# Altium schematic symbol library Sinara.SchLib: 57 symbols
Pins are listed as number, name and electrical type; pins without a type are passive.

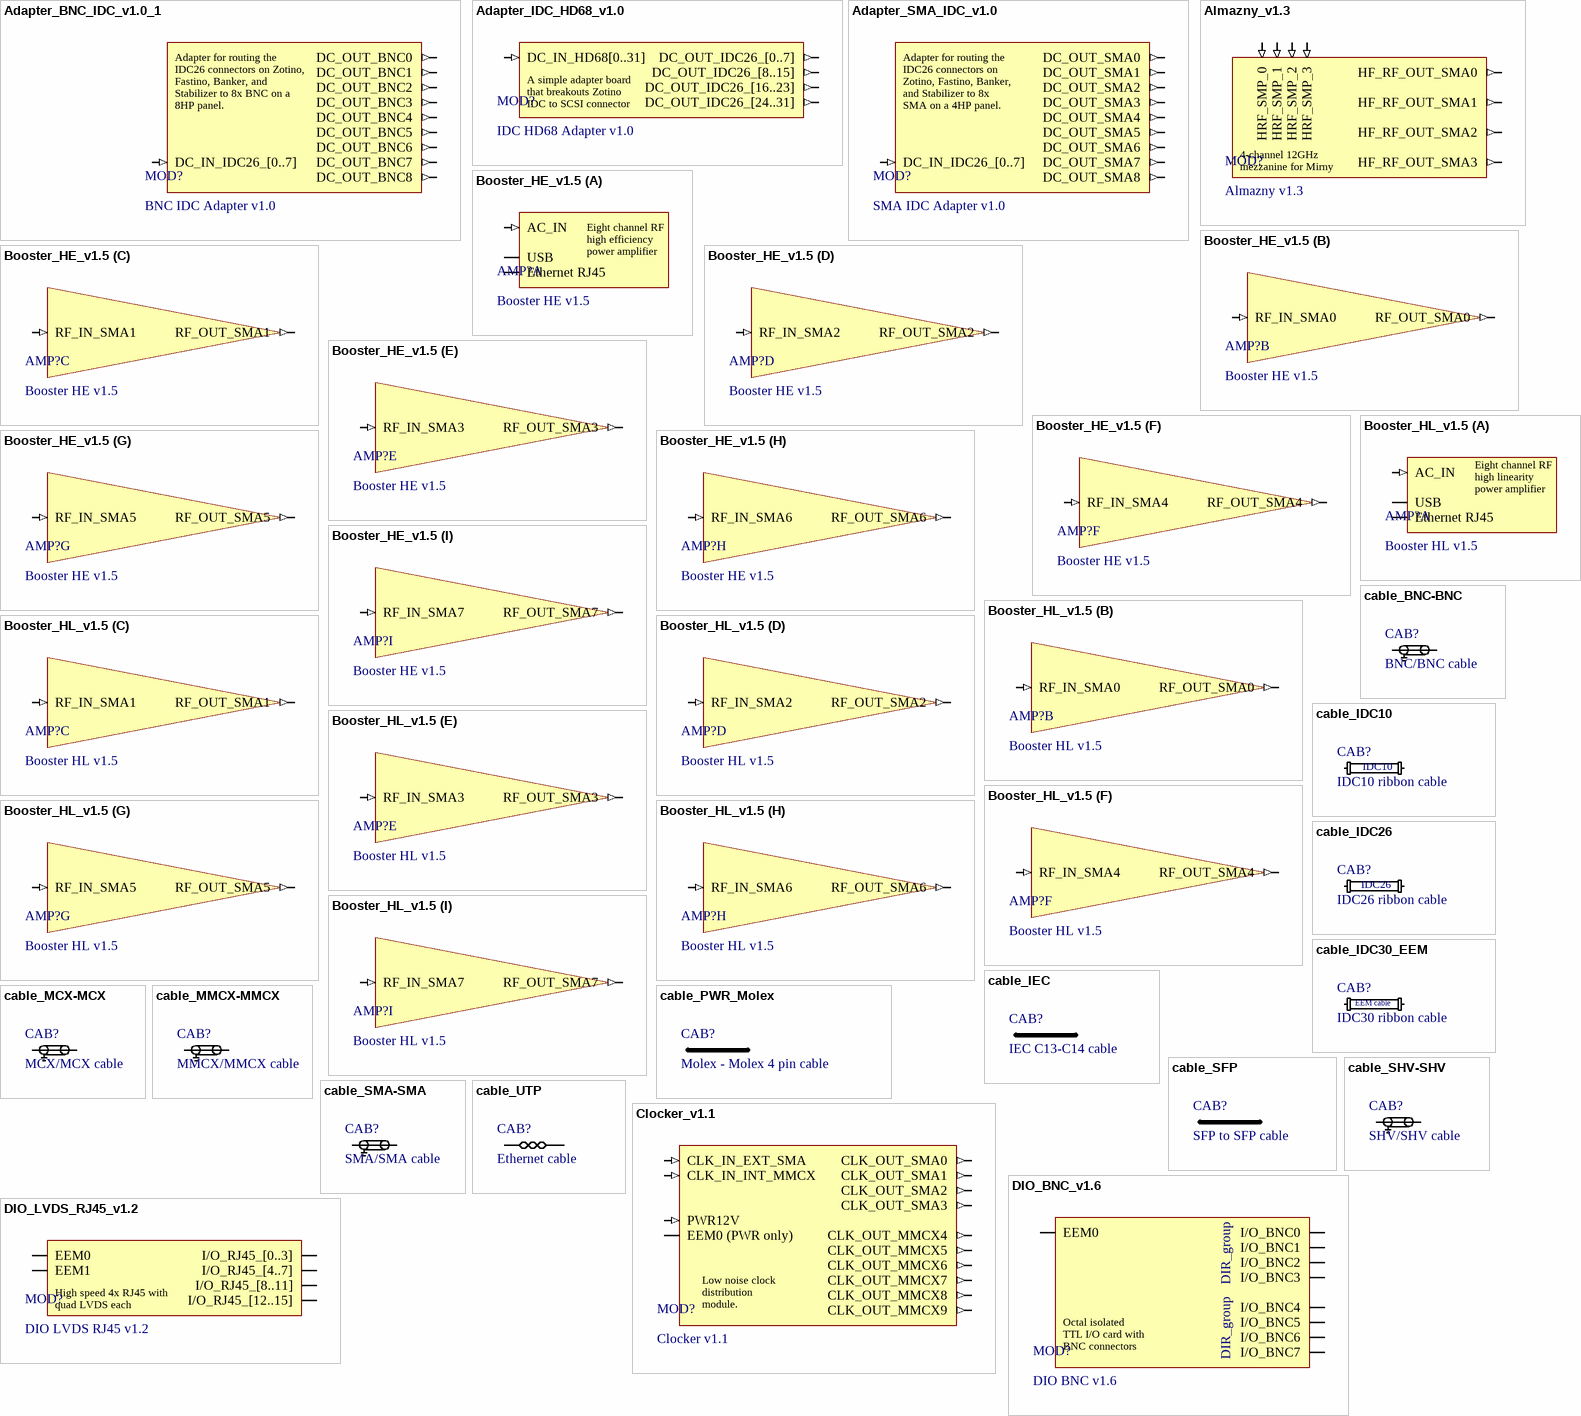
[diagram p0: symbols Adapter_BNC_IDC_v1.0_1 to DIO_LVDS_RJ45_v1.2]

## Adapter_BNC_IDC_v1.0_1
designator MOD?, comment BNC IDC Adapter v1.0
Adapter for routing the IDC26 connectors on Zotino, Fastino, Banker, and Stabilizer to 8x BNC on a 8HP panel.
pins: ?1 DC_IN_IDC26_[0..7] (in), ?2 DC_OUT_BNC0 (out), ?3 DC_OUT_BNC1 (out), ?4 DC_OUT_BNC2 (out), ?5 DC_OUT_BNC3 (out), ?6 DC_OUT_BNC4 (out), ?7 DC_OUT_BNC5 (out), ?8 DC_OUT_BNC6 (out), ?9 DC_OUT_BNC7 (out), ?10 DC_OUT_BNC8 (out)

## Adapter_IDC_HD68_v1.0
designator MOD?, comment IDC HD68 Adapter v1.0
A simple adapter board that breakouts Zotino IDC to SCSI connector
pins: ?1 DC_IN_HD68[0..31] (in), ?2 DC_OUT_IDC26_[0..7] (out), ?3 DC_OUT_IDC26_[8..15] (out), ?4 DC_OUT_IDC26_[16..23] (out), ?5 DC_OUT_IDC26_[24..31] (out)

## Adapter_SMA_IDC_v1.0
designator MOD?, comment SMA IDC Adapter v1.0
Adapter for routing the IDC26 connectors on Zotino, Fastino, Banker, and Stabilizer to 8x SMA on a 4HP panel.
pins: ?1 DC_IN_IDC26_[0..7] (in), ?2 DC_OUT_SMA0 (out), ?3 DC_OUT_SMA1 (out), ?4 DC_OUT_SMA2 (out), ?5 DC_OUT_SMA3 (out), ?6 DC_OUT_SMA4 (out), ?7 DC_OUT_SMA5 (out), ?8 DC_OUT_SMA6 (out), ?9 DC_OUT_SMA7 (out), ?10 DC_OUT_SMA8 (out)

## Almazny_v1.3
designator MOD?, comment Almazny v1.3
4-channel 12GHz mezzanine for Mirny
pins: ?1 HF_RF_OUT_SMA0 (out), ?2 HRF_SMP_0 (in), ?3 HRF_SMP_1 (in), ?4 HRF_SMP_2 (in), ?5 HRF_SMP_3 (in), ?6 HF_RF_OUT_SMA1 (out), ?7 HF_RF_OUT_SMA2 (out), ?8 HF_RF_OUT_SMA3 (out)

## Booster_HE_v1.5
designator AMP?, comment Booster HE v1.5
Eight channel RF high efficiency power amplifier
part A pins: ?1 AC_IN (in), ?2 USB (io), ?3 Ethernet RJ45 (io)
part B pins: ? RF_IN_SMA0 (in), ? RF_OUT_SMA0 (out)
part C pins: ? RF_IN_SMA1 (in), ? RF_OUT_SMA1 (out)
part D pins: ? RF_IN_SMA2 (in), ? RF_OUT_SMA2 (out)
part E pins: ? RF_IN_SMA3 (in), ? RF_OUT_SMA3 (out)
part F pins: ? RF_IN_SMA4 (in), ? RF_OUT_SMA4 (out)
part G pins: ? RF_IN_SMA5 (in), ? RF_OUT_SMA5 (out)
part H pins: ? RF_IN_SMA6 (in), ? RF_OUT_SMA6 (out)
part I pins: ? RF_IN_SMA7 (in), ? RF_OUT_SMA7 (out)

## Booster_HL_v1.5
designator AMP?, comment Booster HL v1.5
Eight channel RF high linearity power amplifier
part A pins: ?1 AC_IN (in), ?2 USB (io), ?3 Ethernet RJ45 (io)
part B pins: ? RF_IN_SMA0 (in), ? RF_OUT_SMA0 (out)
part C pins: ? RF_IN_SMA1 (in), ? RF_OUT_SMA1 (out)
part D pins: ? RF_IN_SMA2 (in), ? RF_OUT_SMA2 (out)
part E pins: ? RF_IN_SMA3 (in), ? RF_OUT_SMA3 (out)
part F pins: ? RF_IN_SMA4 (in), ? RF_OUT_SMA4 (out)
part G pins: ? RF_IN_SMA5 (in), ? RF_OUT_SMA5 (out)
part H pins: ? RF_IN_SMA6 (in), ? RF_OUT_SMA6 (out)
part I pins: ? RF_IN_SMA7 (in), ? RF_OUT_SMA7 (out)

## cable_BNC-BNC
designator CAB?, comment BNC/BNC cable
BNC to BNC cable
pins: ?1 c, ?2 c

## cable_IDC10
designator CAB?, comment IDC10 ribbon cable
IDC10-IDC10 ribbon cable
pins: ?1 c, ?2 c
text: IDC10

## cable_IDC26
designator CAB?, comment IDC26 ribbon cable
IDC26-IDC26 ribbon cable
pins: ?1 c, ?2 c
text: IDC26

## cable_IDC30_EEM
designator CAB?, comment IDC30 ribbon cable
IDC30-IDC30 ribbon cable
pins: ?1 c, ?2 c
text: EEM cable

## cable_IEC
designator CAB?, comment IEC C13-C14 cable
pins: ?1 c, ?2 c

## cable_MCX-MCX
designator CAB?, comment MCX/MCX cable
MCX to MCX cable
pins: ?1 c, ?2 c

## cable_MMCX-MMCX
designator CAB?, comment MMCX/MMCX cable
MMCX to MMCX cable
pins: ?1 c, ?2 c

## cable_PWR_Molex
designator CAB?, comment Molex - Molex 4 pin cable
Molex - Molex mini-fit 4 pin cable
pins: ?1 c, ?2 c

## cable_SFP
designator CAB?, comment SFP to SFP cable
SFP to SFP 10G copper cable
pins: ?1 c, ?2 c

## cable_SHV-SHV
designator CAB?, comment SHV/SHV cable
SHV to SHV cable
pins: ?1 c, ?2 c

## cable_SMA-SMA
designator CAB?, comment SMA/SMA cable
SMA to SMA cable
pins: ?1 c, ?2 c

## cable_UTP
designator CAB?, comment Ethernet cable
Cat5e UTP Ethernet cable
pins: ?1 c, ?2 c

## Clocker_v1.1
designator MOD?, comment Clocker v1.1
Low noise clock distribution module.
pins: ?1 CLK_OUT_SMA0 (out), ?2 CLK_OUT_SMA1 (out), ?3 CLK_OUT_SMA2 (out), ?4 CLK_OUT_SMA3 (out), ?5 PWR12V (in), ?6 CLK_IN_EXT_SMA (in), ?7 CLK_IN_INT_MMCX (in), ?8 EEM0 (PWR only) (io), ?9 CLK_OUT_MMCX4 (out), ?10 CLK_OUT_MMCX5 (out), ?11 CLK_OUT_MMCX6 (out), ?12 CLK_OUT_MMCX7 (out), ?13 CLK_OUT_MMCX8 (out), ?14 CLK_OUT_MMCX9 (out)

## DIO_BNC_v1.6
designator MOD?, comment DIO BNC v1.6
Octal isolated TTL I/O card with BNC connectors
pins: ?1 I/O_BNC0 (io), ?2 I/O_BNC1 (io), ?3 I/O_BNC2 (io), ?4 I/O_BNC3 (io), ?5 I/O_BNC4 (io), ?6 I/O_BNC5 (io), ?7 I/O_BNC6 (io), ?8 I/O_BNC7 (io), EEM0 (io)
text: DIR_group

## DIO_LVDS_RJ45_v1.2
designator MOD?, comment DIO LVDS RJ45 v1.2
High speed 4x RJ45 with quad LVDS each
pins: ?1 I/O_RJ45_[0..3] (io), ?2 I/O_RJ45_[4..7] (io), ?3 I/O_RJ45_[8..11] (io), ?4 I/O_RJ45_[12..15] (io), EEM0 (io), EEM1 (io)

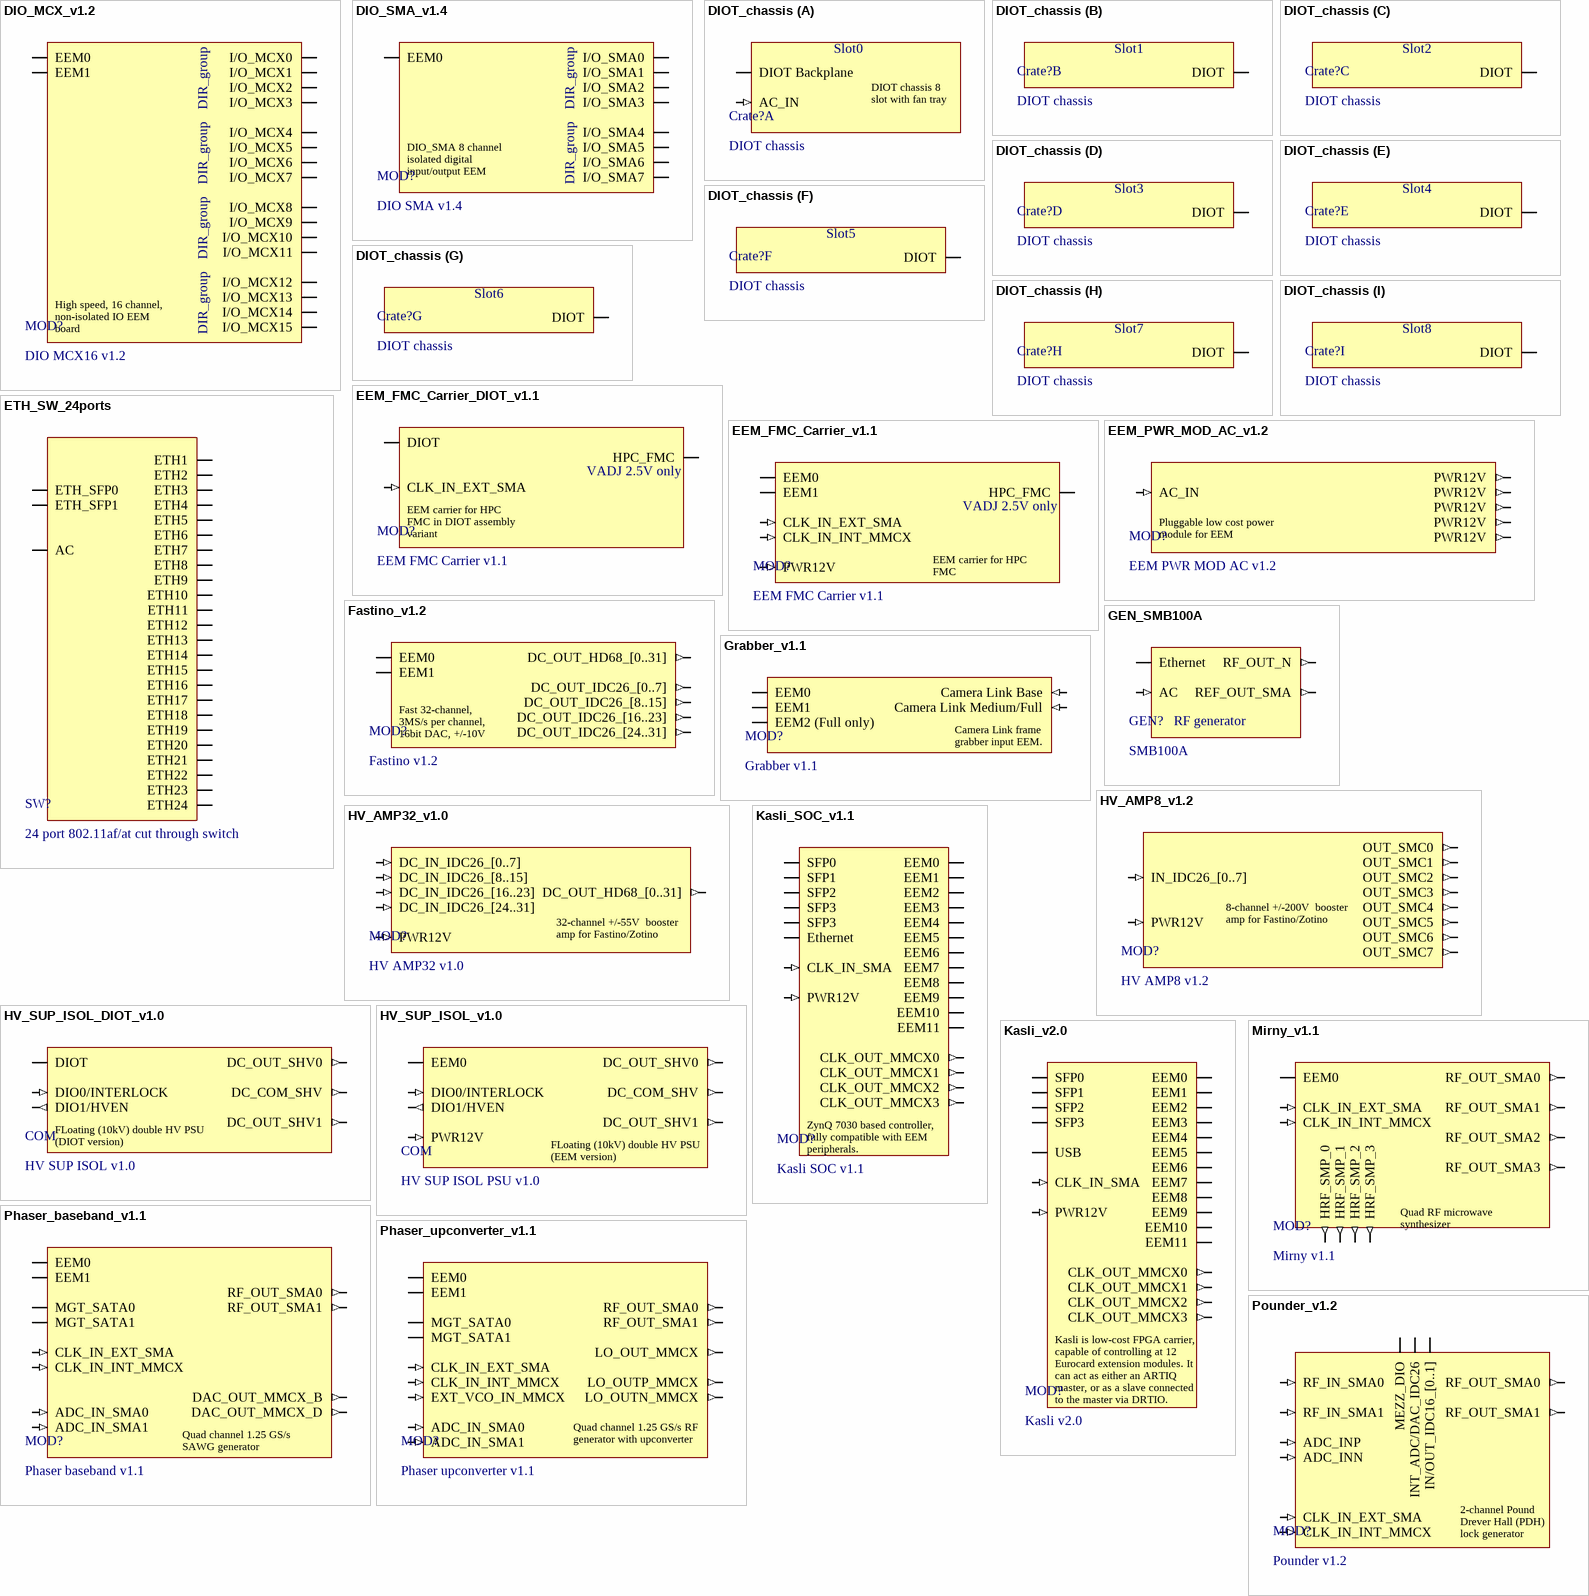
[diagram p1: symbols DIO_MCX_v1.2 to Pounder_v1.2]

## DIO_MCX_v1.2
designator MOD?, comment DIO MCX16 v1.2
High speed, 16 channel, non-isolated IO EEM board
pins: ?1 I/O_MCX0 (io), ?2 I/O_MCX1 (io), ?3 I/O_MCX2 (io), ?4 I/O_MCX3 (io), ?5 I/O_MCX4 (io), ?6 I/O_MCX5 (io), ?7 I/O_MCX6 (io), ?8 I/O_MCX7 (io), ?9 I/O_MCX8 (io), ?10 I/O_MCX9 (io), ?11 I/O_MCX10 (io), ?12 I/O_MCX11 (io), ?13 I/O_MCX12 (io), ?14 I/O_MCX13 (io), ?15 I/O_MCX14 (io), ?16 I/O_MCX15 (io), EEM0 (io), EEM1 (io)
text: DIR_group

## DIO_SMA_v1.4
designator MOD?, comment DIO SMA v1.4
DIO_SMA 8 channel isolated digital input/output EEM
pins: ?1 I/O_SMA0 (io), ?2 I/O_SMA1 (io), ?3 I/O_SMA2 (io), ?4 I/O_SMA3 (io), ?5 I/O_SMA4 (io), ?6 I/O_SMA5 (io), ?7 I/O_SMA6 (io), ?8 I/O_SMA7 (io), EEM0 (io)
text: DIR_group

## DIOT_chassis
designator Crate?, comment DIOT chassis
DIOT chassis with supply and fan tray
part A pins: ?1 DIOT Backplane (io), ?2 AC_IN (in)
part B pins: ? DIOT (io)
part C pins: ? DIOT (io)
part D pins: ? DIOT (io)
part E pins: ? DIOT (io)
part F pins: ? DIOT (io)
part G pins: ? DIOT (io)
part H pins: ? DIOT (io)
part I pins: ? DIOT (io)
part A text: Slot0; DIOT chassis 8 slot with fan tray
part B text: Slot1
part C text: Slot2
part D text: Slot3
part E text: Slot4
part F text: Slot5
part G text: Slot6
part H text: Slot7
part I text: Slot8

## EEM_FMC_Carrier_DIOT_v1.1
designator MOD?, comment EEM FMC Carrier v1.1
EEM carrier for HPC FMC in DIOT assembly variant
pins: ?1 DIOT (io), ?2 CLK_IN_EXT_SMA (in), ?3 HPC_FMC (io)
text: VADJ 2.5V only

## EEM_FMC_Carrier_v1.1
designator MOD?, comment EEM FMC Carrier v1.1
EEM carrier for HPC FMC
pins: ?1 CLK_IN_EXT_SMA (in), ?2 CLK_IN_INT_MMCX (in), ?3 HPC_FMC (io), ?4 PWR12V (in), EEM0 (io), EEM1 (io)
text: VADJ 2.5V only

## EEM_PWR_MOD_AC_v1.2
designator MOD?, comment EEM PWR MOD AC v1.2
Pluggable low cost power module for EEM
pins: ?1 AC_IN (in), ?2 PWR12V (out), ?3 PWR12V (out), ?4 PWR12V (out), ?5 PWR12V (out), ?6 PWR12V (out)

## ETH_SW_24ports
designator SW?, comment 24 port 802.11af/at cut through switch
24 port 802.11af/at cut through switch, rack mounted, min 300W PoE power
pins: ?1 ETH1 (io), ?2 ETH2 (io), ?3 ETH3 (io), ?4 ETH4 (io), ?5 ETH5 (io), ?6 ETH6 (io), ?7 ETH7 (io), ?8 ETH8 (io), ?9 ETH9 (io), ?10 ETH10 (io), ?11 ETH11 (io), ?12 ETH12 (io), ?13 ETH13 (io), ?14 ETH14 (io), ?15 ETH15 (io), ?16 ETH16 (io), ?17 ETH17 (io), ?18 ETH18 (io), ?19 ETH19 (io), ?20 ETH20 (io), ?21 ETH21 (io), ?22 ETH22 (io), ?23 ETH23 (io), ?24 ETH_SFP0 (io), ?25 ETH_SFP1 (io), ?26 ETH24 (io), ?27 AC (io)

## Fastino_v1.2
designator MOD?, comment Fastino v1.2
Fast 32-channel, 3MS/s per channel, 16bit DAC, +/-10V
pins: ?1 DC_OUT_HD68_[0..31] (out), ?2 DC_OUT_IDC26_[0..7] (out), ?3 DC_OUT_IDC26_[8..15] (out), ?4 DC_OUT_IDC26_[16..23] (out), ?5 DC_OUT_IDC26_[24..31] (out), EEM0 (io), EEM1 (io)

## GEN_SMB100A
designator GEN?, comment SMB100A
3GHz RF generator
pins: ?1 RF_OUT_N (out), ?2 Ethernet (io), ?3 AC (in), ?4 REF_OUT_SMA (out)
text: RF generator

## Grabber_v1.1
designator MOD?, comment Grabber v1.1
Camera Link frame grabber input EEM.
pins: ?1 Camera Link Base (in), ?2 Camera Link Medium/Full (in), EEM0 (io), EEM1 (io), EEM2 EEM2 (Full only) (io)

## HV_AMP8_v1.2
designator MOD?, comment HV AMP8 v1.2
8-channel +/-200V  booster amp for Fastino/Zotino
pins: ?1 OUT_SMC0 (out), ?2 IN_IDC26_[0..7] (in), ?3 PWR12V (in), ?4 OUT_SMC1 (out), ?5 OUT_SMC2 (out), ?6 OUT_SMC3 (out), ?7 OUT_SMC4 (out), ?8 OUT_SMC5 (out), ?9 OUT_SMC6 (out), ?10 OUT_SMC7 (out)

## HV_AMP32_v1.0
designator MOD?, comment HV AMP32 v1.0
32-channel +/-55V  booster amp for Fastino/Zotino
pins: ?1 DC_OUT_HD68_[0..31] (out), ?2 DC_IN_IDC26_[0..7] (in), ?3 DC_IN_IDC26_[8..15] (in), ?4 DC_IN_IDC26_[16..23] (in), ?5 DC_IN_IDC26_[24..31] (in), ?6 PWR12V (in)

## HV_SUP_ISOL_DIOT_v1.0
designator COM, comment HV SUP ISOL v1.0
FLoating (10kV) double HV PSU (DIOT version)
pins: ?1 DIOT (io), ?2 DC_OUT_SHV0 (out), ?3 DC_OUT_SHV1 (out), ?4 DC_COM_SHV (out), ?5 DIO0/INTERLOCK (in), ?6 DIO1/HVEN (out)

## HV_SUP_ISOL_v1.0
designator COM, comment HV SUP ISOL PSU v1.0
FLoating (10kV) double HV PSU (EEM version)
pins: ?1 DC_OUT_SHV0 (out), ?2 DC_OUT_SHV1 (out), ?3 DC_COM_SHV (out), ?4 PWR12V (in), ?5 DIO0/INTERLOCK (in), ?6 DIO1/HVEN (out), EEM0 (io)

## Kasli_SOC_v1.1
designator MOD?, comment Kasli SOC v1.1
ZYnQ 7030 based controller, fully compatible with EEM peripherals.
pins: ?1 SFP0 (io), ?2 SFP1 (io), ?3 SFP2 (io), ?4 SFP3 (io), ?5 Ethernet (io), ?6 CLK_IN_SMA (in), ?7 CLK_OUT_MMCX0 (out), ?8 CLK_OUT_MMCX1 (out), ?9 CLK_OUT_MMCX2 (out), ?10 CLK_OUT_MMCX3 (out), ?11 PWR12V (in), ?12 SFP3 (io), EEM0 (io), EEM1 (io), EEM2 (io), EEM3 (io), EEM4 (io), EEM5 (io), EEM6 (io), EEM7 (io), EEM8 (io), EEM9 (io), EEM10 (io), EEM11 (io)
text: ZynQ 7030 based controller, fully compatible with EEM peripherals.

## Kasli_v2.0
designator MOD?, comment Kasli v2.0
Kasli is low-cost FPGA carrier, capable of controlling at 12 Eurocard extension modules. It can act as either an ARTIQ master, or as a slave connected to the master via DRTIO.
pins: ?1 SFP0 (io), ?2 SFP1 (io), ?3 SFP2 (io), ?4 SFP3 (io), ?5 USB (io), ?6 CLK_IN_SMA (in), ?7 CLK_OUT_MMCX0 (out), ?8 CLK_OUT_MMCX1 (out), ?9 CLK_OUT_MMCX2 (out), ?10 CLK_OUT_MMCX3 (out), ?11 PWR12V (in), EEM0 (io), EEM1 (io), EEM2 (io), EEM3 (io), EEM4 (io), EEM5 (io), EEM6 (io), EEM7 (io), EEM8 (io), EEM9 (io), EEM10 (io), EEM11 (io)

## Mirny_v1.1
designator MOD?, comment Mirny v1.1
Quad RF microwave synthesizer
pins: ?1 CLK_IN_EXT_SMA (in), ?2 CLK_IN_INT_MMCX (in), ?3 RF_OUT_SMA0 (out), ?4 RF_OUT_SMA1 (out), ?5 RF_OUT_SMA2 (out), ?6 RF_OUT_SMA3 (out), ?7 HRF_SMP_0 (out), ?8 HRF_SMP_1 (out), ?9 HRF_SMP_2 (out), ?10 HRF_SMP_3 (out), EEM0 (io)

## Phaser_baseband_v1.1
designator MOD?, comment Phaser baseband v1.1
Quad channel 1.25 GS/s SAWG generator
pins: ?1 CLK_IN_EXT_SMA (in), ?2 CLK_IN_INT_MMCX (in), ?3 RF_OUT_SMA0 (out), ?4 RF_OUT_SMA1 (out), ?5 MGT_SATA0 (io), ?6 MGT_SATA1 (io), ?7 DAC_OUT_MMCX_B (out), ?8 DAC_OUT_MMCX_D (out), EEM0 (io), EEM1 (io), EEM2 ADC_IN_SMA0 (in), EEM3 ADC_IN_SMA1 (in)

## Phaser_upconverter_v1.1
designator MOD?, comment Phaser upconverter v1.1
Quad channel 1.25 GS/s RF generator with upconverter
pins: ?1 CLK_IN_EXT_SMA (in), ?2 CLK_IN_INT_MMCX (in), ?3 RF_OUT_SMA0 (out), ?4 RF_OUT_SMA1 (out), ?5 EXT_VCO_IN_MMCX (in), ?6 LO_OUT_MMCX (out), ?7 LO_OUTP_MMCX (out), ?8 LO_OUTN_MMCX (out), ?9 MGT_SATA0 (io), ?10 MGT_SATA1 (io), EEM0 (io), EEM1 (io), EEM2 ADC_IN_SMA0 (in), EEM3 ADC_IN_SMA1 (in)

## Pounder_v1.2
designator MOD?, comment Pounder v1.2
2-channel Pound Drever Hall (PDH) lock generator
pins: ?1 RF_IN_SMA0 (in), ?2 ADC_INP (in), ?3 RF_OUT_SMA0 (out), ?4 IN/OUT_IDC16_[0..1] (io), ?5 INT_ADC/DAC_IDC26 (io), ?6 MEZZ_DIO (io), ?7 RF_OUT_SMA1 (out), ?8 RF_IN_SMA1 (in), ?9 ADC_INN (in), ?10 CLK_IN_EXT_SMA (in), ?11 CLK_IN_INT_MMCX (in)

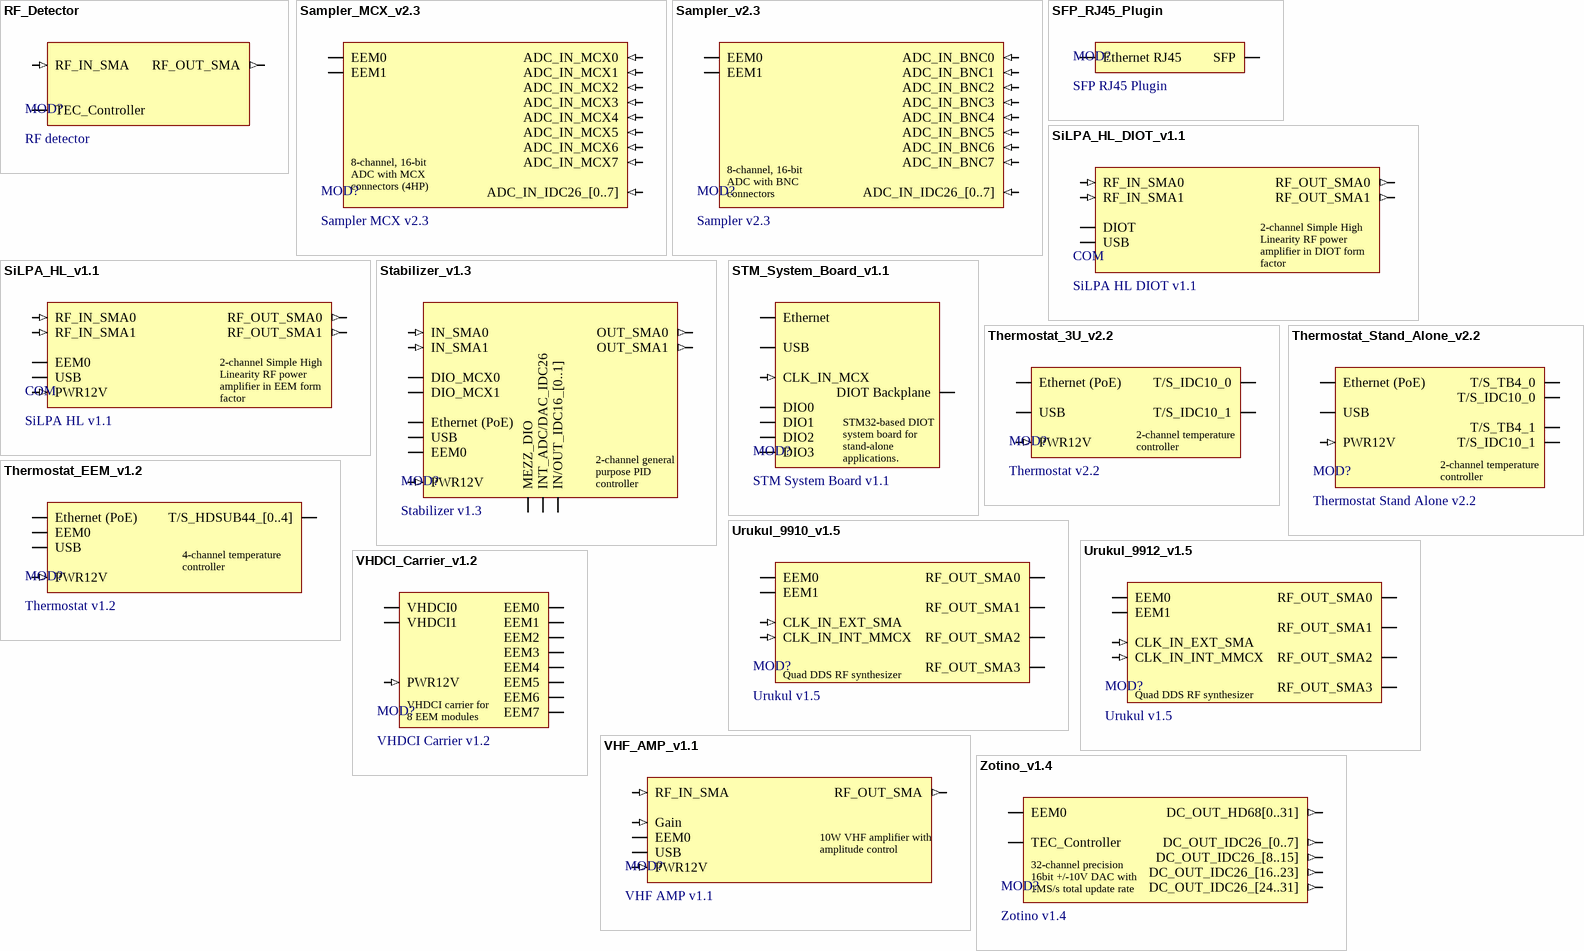
[diagram p2: symbols RF_Detector to Zotino_v1.4]

## RF_Detector
designator MOD?, comment RF detector
RF detector with temperature control
pins: ?1 TEC_Controller (io), ?2 RF_IN_SMA (in), ?3 RF_OUT_SMA (out)

## Sampler_MCX_v2.3
designator MOD?, comment Sampler MCX v2.3
8-channel, 16-bit ADC with MCX connectors (4HP)
pins: EEM0 (io), EEM1 (io), EEM2 ADC_IN_MCX0 (in), EEM3 ADC_IN_MCX1 (in), EEM4 ADC_IN_MCX2 (in), EEM5 ADC_IN_MCX3 (in), EEM6 ADC_IN_MCX4 (in), EEM7 ADC_IN_MCX5 (in), EEM8 ADC_IN_MCX6 (in), EEM9 ADC_IN_MCX7 (in), EEM9 ADC_IN_IDC26_[0..7] (in)

## Sampler_v2.3
designator MOD?, comment Sampler v2.3
8-channel, 16-bit ADC with BNC connectors
pins: EEM0 (io), EEM1 (io), EEM2 ADC_IN_BNC0 (in), EEM3 ADC_IN_BNC1 (in), EEM4 ADC_IN_BNC2 (in), EEM5 ADC_IN_BNC3 (in), EEM6 ADC_IN_BNC4 (in), EEM7 ADC_IN_BNC5 (in), EEM8 ADC_IN_BNC6 (in), EEM9 ADC_IN_BNC7 (in), EEM9 ADC_IN_IDC26_[0..7] (in)

## SFP_RJ45_Plugin
designator MOD?, comment SFP RJ45 Plugin
SFP RJ45 1000Base-X to 1000Base-T transceiver
pins: ?1 Ethernet RJ45 (io), ?2 SFP (io)

## SiLPA_HL_DIOT_v1.1
designator COM, comment SiLPA HL DIOT v1.1
2-channel Simple High Linearity RF power amplifier in DIOT form factor; Parameter 1: 2-channel High Linearity RF power amplifier in EEM form factor
pins: ?1 DIOT (io), ?2 RF_IN_SMA0 (in), ?3 RF_OUT_SMA0 (out), ?4 RF_OUT_SMA1 (out), ?5 RF_IN_SMA1 (in), ?6 USB (io)

## SiLPA_HL_v1.1
designator COM, comment SiLPA HL v1.1
2-channel Simple High Linearity RF power amplifier in EEM form factor; Parameter 1: 2-channel High Efficiency RF power amplifier in EEM form factor
pins: ?1 PWR12V (in), ?2 RF_IN_SMA0 (in), ?3 RF_OUT_SMA0 (out), ?4 RF_OUT_SMA1 (out), ?5 RF_IN_SMA1 (in), ?6 USB (io), EEM0 (io)

## Stabilizer_v1.3
designator MOD?, comment Stabilizer v1.3
2-channel general purpose PID controller
pins: ?1 Ethernet (PoE) (io), ?2 PWR12V (in), ?3 USB (io), ?4 IN_SMA0 (in), ?5 IN_SMA1 (in), ?6 DIO_MCX0 (io), ?7 DIO_MCX1 (io), ?8 EEM0 (io), ?9 OUT_SMA0 (out), ?10 OUT_SMA1 (out), ?11 IN/OUT_IDC16_[0..1] (io), ?12 INT_ADC/DAC_IDC26 (io), ?13 MEZZ_DIO (io)

## STM_System_Board_v1.1
designator MOD?, comment STM System Board v1.1
STM32-based DIOT system board for stand-alone applications.
pins: ?1 DIOT Backplane (io), ?2 Ethernet (io), ?3 USB (io), ?4 CLK_IN_MCX (in), ?5 DIO0 (io), ?6 DIO1 (io), ?7 DIO2 (io), ?8 DIO3 (io)

## Thermostat_3U_v2.2
designator MOD?, comment Thermostat v2.2
2-channel temperature controller
pins: ?1 Ethernet (PoE) (io), ?2 PWR12V (in), ?3 USB (io), ?4 T/S_IDC10_0 (io), ?5 T/S_IDC10_1 (io)

## Thermostat_EEM_v1.2
designator MOD?, comment Thermostat v1.2
4-channel temperature controller.
pins: ?1 Ethernet (PoE) (io), ?2 PWR12V (in), ?3 USB (io), ?4 T/S_HDSUB44_[0..4] (io), ?5 EEM0 (io)
text: 4-channel temperature controller

## Thermostat_Stand_Alone_v2.2
designator MOD?, comment Thermostat Stand Alone v2.2
2-channel temperature controller
pins: ?1 Ethernet (PoE) (io), ?2 PWR12V (in), ?3 T/S_TB4_0 (io), ?4 USB (io), ?5 T/S_IDC10_0 (io), ?6 T/S_IDC10_1 (io), ?7 T/S_TB4_1 (io)

## Urukul_9910_v1.5
designator MOD?, comment Urukul v1.5
Quad DDS RF synthesizer
pins: ?1 CLK_IN_EXT_SMA (in), ?2 CLK_IN_INT_MMCX (in), ?3 RF_OUT_SMA0, ?4 RF_OUT_SMA1, ?5 RF_OUT_SMA2, ?6 RF_OUT_SMA3, EEM0 (io), EEM1 (io)

## Urukul_9912_v1.5
designator MOD?, comment Urukul v1.5
Quad DDS synthesizer
pins: ?1 CLK_IN_EXT_SMA (in), ?2 CLK_IN_INT_MMCX (in), ?3 RF_OUT_SMA0, ?4 RF_OUT_SMA1, ?5 RF_OUT_SMA2, ?6 RF_OUT_SMA3, EEM0 (io), EEM1 (io)
text: Quad DDS RF synthesizer

## VHDCI_Carrier_v1.2
designator MOD?, comment VHDCI Carrier v1.2
VHDCI carrier for 8 3U modules
pins: ?1 VHDCI0 (io), ?2 PWR12V (in), ?3 VHDCI1 (io), EEM0 (io), EEM1 (io), EEM2 (io), EEM3 (io), EEM4 (io), EEM5 (io), EEM6 (io), EEM7 (io)
text: VHDCI carrier for 8 EEM modules

## VHF_AMP_v1.1
designator MOD?, comment VHF AMP v1.1
10W VHF amplifier with amplitude control; Parameter 1: 2-channel High Efficiency RF power amplifier in EEM form factor
pins: ?1 PWR12V (in), ?2 RF_IN_SMA (in), ?3 RF_OUT_SMA (out), ?4 USB (io), ?5 Gain (in), EEM0 (io)

## Zotino_v1.4
designator MOD?, comment Zotino v1.4
32-channel precision 16bit +/-10V DAC with 1MS/s total update rate
pins: ?1 DC_OUT_HD68[0..31] (out), ?2 TEC_Controller (io), ?3 DC_OUT_IDC26_[0..7] (out), ?4 DC_OUT_IDC26_[8..15] (out), ?5 DC_OUT_IDC26_[16..23] (out), ?6 DC_OUT_IDC26_[24..31] (out), EEM0 (io)